# Altium footprint library Inductors.PcbLib: 39 footprints (part 2 of 3)
Each footprint in its own frame and in the unit in brackets; x right, y up, seen from the top. Pads: shape width x height; smd on the part's side, far side on the other; paste and mask are expansions set on the pad; w line width, h text height; cw(c..) or ccw(c..) is an arc to the next point about the centre after c.
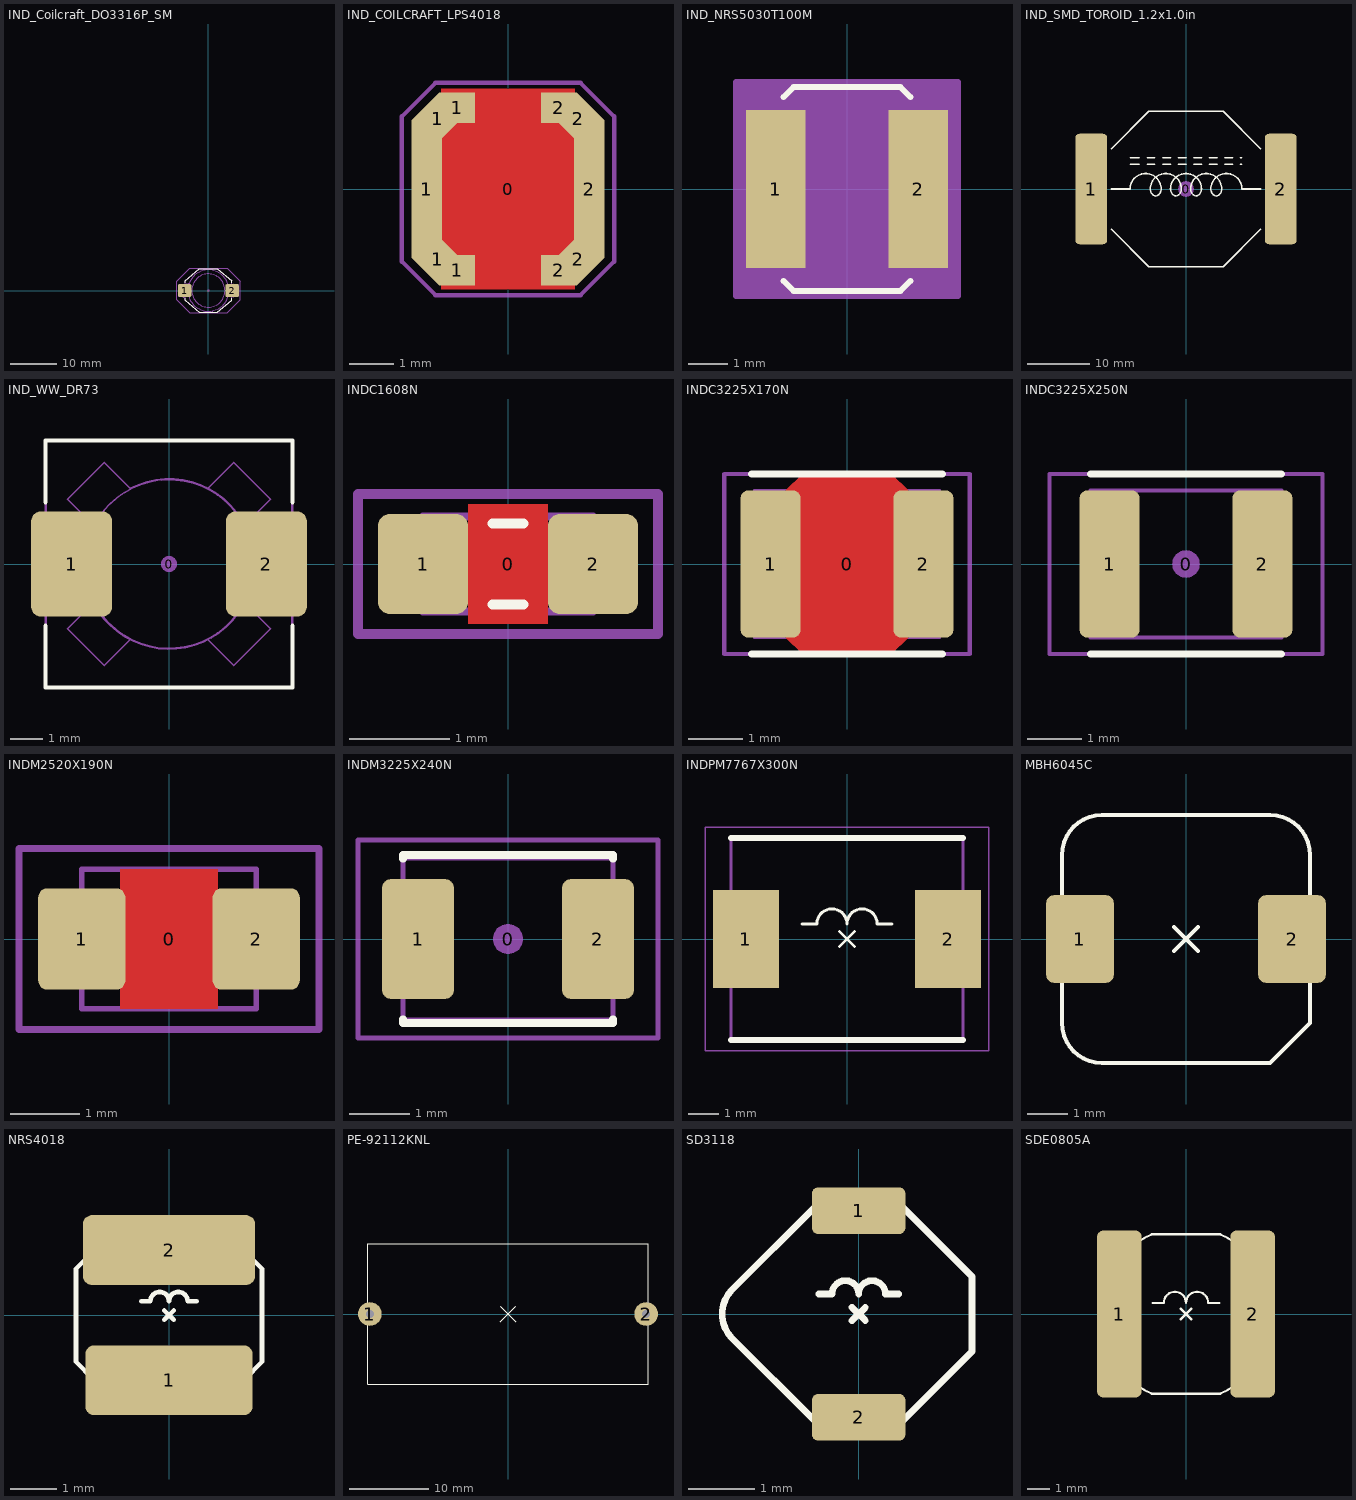
[diagram p1: the footprints below, top view; thin cyan lines are the x and y axes]

## IND_Coilcraft_DO3316P_SM [mil] "Wire-wound Power Inductor, 2-Leads, Body 12.95x9.4mm"
height 205
pads (3):
  round 20 on Mech15: 0(0,0)
  rrect25% 115x110 smd: 1(-202.5,0) 2(202.5,0)
Top Overlay:
  lines w6: -200,-65 -200,-82.84 -76.63,-185 76.63,-185 200,-82.84 200,-65 ; -200,65 -200,82.84 -76.63,185 76.63,185 200,82.84 200,65
Mechanical 13:
  drawing of 272 lines, arcs and shapes, not listed
Mechanical 15:
  lines w3: -270,-80 -270,80 -160,190 160,190 270,80 270,-80 160,-190 -160,-190 -270,-80
3D body "Pulse Inductor RR.STEP": height 172.5, standoff 0, extent -255.38,-185 255.2,185

## IND_COILCRAFT_LPS4018 [mm] "Shielded Power Inductor, Body 4.0x4.0x1.8mm"
height 1.8
pads (11):
  round 0.5 on Mech15: 0(0,0)
  rrect1% 0.7x3.124 smd: 1(-1.85,0) 2(1.85,0)
  rrect1% 0.786x0.902 smd rot 45: 1(-1.603,-1.603) 2(1.603,1.603)
  rrect1% 0.786x0.902 smd rot 135: 1(-1.603,1.603) 2(1.603,-1.603)
  rrect1% 0.812x0.7 smd: 1(-1.156,-1.85) 1(-1.156,1.85) 2(1.156,-1.85) 2(1.156,1.85)
Top Layer:
  pour cut-out: -1.524,2.286 1.524,2.286 1.524,-2.286 -1.524,-2.286
Mechanical 13:
  lines w0.076: -2,-1.275 -2,1.325 -1.325,2 1.325,2 2,1.325 2,-1.275 1.275,-2 -1.275,-2 -2,-1.275
Mechanical 15:
  lines w0.1: -2.413,-1.651 -1.651,-2.413 1.651,-2.413 2.413,-1.651 2.413,1.651 1.651,2.413 -1.651,2.413 -2.413,1.651 -2.413,-1.651
3D body "Inductor Coilcraft LPS4018.STEP": height 1.79, standoff -0.01, extent -2,-2 2,2

## IND_NRS5030T100M [mil]
height 122.05
pads (2):
  rect 59x157 smd paste+0 mask+0: 1(-70.87,0) 2(70.87,0)
Top Overlay:
  lines w6: -63.15,-91.6 -53.25,-101.5 53.25,-101.5 63.15,-91.6 ; -63.15,91.6 -53.25,101.5 53.25,101.5 63.15,91.6
Mechanical 13:
  lines w1: -96.5,-48.25 -96.5,48.25 -48.25,96.5 48.25,96.5 96.5,48.25 96.5,-48.25 48.25,-96.5 -48.25,-96.5 -96.5,-48.25
Mechanical 15:
  region: 110.37,-106.5 -110.37,-106.5 -110.37,106.5 110.37,106.5
  lines w6: -110.37,-106.5 -110.37,106.5 110.37,106.5 110.37,-106.5 -110.37,-106.5
3D body: height 122.05, standoff 0, extent -96.45,-96.45 96.46,96.46

## IND_SMD_TOROID_1.2x1.0in [mm] "Inductor, Toroid, 30.5mm L x 25.4mm W x 13.5mm T"
height 13.5
pads (3):
  round 2.54 on Mech15: 0(0,0)
  rrect25% 5.1x17.8 smd: 1(-15.25,0) 2(15.25,0)
Top Overlay:
  lines w0.254: -12,-6.5 -6,-12.5 6,-12.5 12,-6.5 ; -12,0 -9,0 cw(c-6.5,0) -4,0 cw(c-5.25,0) -4.691,-1.118 cw(c-4.875,0) -5.059,-1.118 cw(c-4.5,0) -5.75,0 cw(c-3.25,0) -0.75,0 cw(c-2,0) -1.441,-1.118 cw(c-1.625,0) -1.809,-1.118 cw(c-1.25,0) -2.5,0 cw(c0,0) 2.5,0 cw(c1.25,0) 1.809,-1.118 cw(c1.625,0) 1.441,-1.118 cw(c2,0) 0.75,0 cw(c3.25,0) 5.75,0 cw(c4.5,0) 5.059,-1.118 cw(c4.875,0) 4.691,-1.118 cw(c5.25,0) 4,0 cw(c6.5,0) 9,0 12,0 ; -12,6.5 -6,12.5 6,12.5 12,6.5 ; -9,4 -7.5,4 ; -9,5 -7.5,5 ; -6.25,4 -5,4 ; -6.25,5 -5,5 ; -3.75,4 -2.5,4 ; -3.75,5 -2.5,5 ; -1.25,4 0,4 ; -1.25,5 0,5 ; 1.25,4 2.5,4 ; 1.25,5 2.5,5 ; 3.75,4 5,4 ; 3.75,5 5,5 ; 6.25,4 7.5,4 ; 6.25,5 7.5,5 ; 8.75,4 9,4 ; 8.75,5 9,5
3D body: height 12, standoff 5, extent -10,-10 10,10
3D body: height 3.5, standoff 1.5, extent -17,-12.5 17,12.5

## IND_WW_DR73 [mm] "Wire-wound power inductor, Cooper Bussmann DR73 series, IPC Medium Density"
height 3.55
pads (3):
  round 0.5 on Mech15: 0(0,0)
  rrect25% 2.5x3.25 smd: 1(-3,0) 2(3,0)
Top Overlay:
  lines w0.127: -3.81,-1.905 -3.81,-3.81 3.81,-3.81 3.81,-1.905 ; -3.81,1.905 -3.81,3.81 3.81,3.81 3.81,1.905
Mechanical 13:
  circle w0.05: c0,0 r2.6
  lines w0.05: -2.574,-0.515 -2.574,-0.367 ; -2.574,0.367 -2.574,0.515 ; -2.346,-1.178 -2.346,-1.121 ; -2.346,1.121 -2.346,1.178 ; -2.273,-1.263 -2.334,-1.202 -3.129,-1.998 -1.998,-3.129 -1.202,-2.334 ; -2.273,1.263 -2.334,1.202 ; -2.202,-1.429 -2.184,-1.411 ; -2.202,1.429 -2.184,1.411 ; -1.429,-2.202 -1.411,-2.184 ; -1.263,-2.273 -1.202,-2.334 ; -1.197,-2.308 -1.202,-2.334 ; -0.237,2.589 -0.232,2.615 ; 0.232,-2.615 0.237,-2.589 ; 1.197,2.308 1.202,2.334 ; 1.202,-2.334 1.998,-3.129 3.129,-1.998 2.334,-1.202 2.273,-1.263 ; 1.263,2.273 1.202,2.334 ; 1.411,2.184 1.429,2.202 ; 2.184,-1.411 2.202,-1.429 ; 2.184,1.411 2.202,1.429 ; 2.273,1.263 2.334,1.202 3.129,1.998 1.998,3.129 1.202,2.334 ; 2.574,-0.515 2.574,-0.367 ; 2.574,0.367 2.574,0.515 ; -2.334,1.202 ccw(c0,0) -1.202,2.334 -1.998,3.129 -3.129,1.998 -2.334,1.202 ; -3.8,-3.8 -3.8,3.8 3.8,3.8 3.8,-3.8 -3.8,-3.8
Mechanical 15:
  lines w0.076: -3.8,-3.8 3.8,-3.8 3.8,3.8 -3.8,3.8 -3.8,-3.8
3D body "Cooper Bussman DR73 Series Inductor.STEP": height 3.55, standoff 0, extent -3.8,-3.8 3.8,3.8

## INDC1608N [mm] "Chip bead, Body 1.6x0.8mm, 0603, IPC Medium Density"
height 0.8
pads (3):
  round 0.254 on Mech15: 0(0,0)
  rrect25% 0.9x1 smd: 1(-0.85,0) 2(0.85,0)
Top Layer:
  pour cut-out: -0.4,0.6 0.4,0.6 0.4,-0.6 -0.4,-0.6
Top Overlay:
  lines w0.102: -0.152,-0.406 0.152,-0.406 ; -0.152,0.406 0.152,0.406
Mechanical 13:
  lines w0.076: -0.85,-0.475 -0.85,0.475 0.85,0.475 0.85,-0.475 -0.85,-0.475
Mechanical 15:
  lines w0.1: -1.5,-0.7 -1.5,0.7 1.5,0.7 1.5,-0.7 -1.5,-0.7
3D body "INDC1608X80N.step": height 0.79, standoff -0.01, extent -0.8,-0.4 0.8,0.4

## INDC3225X170N [mm] "Chip Inductor, 2-Leads, Body 3.2x2.5mm, IPC Medium Density"
height 1.7
pads (3):
  round 0.508 on Mech15: 0(0,0)
  rrect25% 1.1x2.7 smd: 1(-1.4,0) 2(1.4,0)
Top Layer:
  pour cut-out: -1.125,1.35 -0.825,1.65 0.825,1.65 1.125,1.35 1.125,-1.35 0.825,-1.65 -0.825,-1.65 -1.125,-1.35
Top Overlay:
  lines w0.127: -1.75,-1.651 1.75,-1.651 ; -1.75,1.651 1.75,1.651
Mechanical 13:
  lines w0.05: -1.7,-1.35 -1.7,1.35 1.7,1.35 1.7,-1.35 -1.7,-1.35
Mechanical 15:
  lines w0.076: -2.25,-1.65 2.25,-1.65 2.25,1.65 -2.25,1.65 -2.25,-1.65
3D body "INDC3225X170N.STEP": height 1.7, standoff 0, extent -1.71,-1.36 1.71,1.36

## INDC3225X250N [mm] "Chip Inductor, 2-Leads, Body 3.2x2.5mm, IPC Medium Density"
height 2.7
pads (3):
  round 0.508 on Mech15: 0(0,0)
  rrect25% 1.1x2.7 smd: 1(-1.4,0) 2(1.4,0)
Top Overlay:
  lines w0.127: -1.75,-1.651 1.75,-1.651 ; -1.75,1.651 1.75,1.651
Mechanical 13:
  lines w0.076: -1.75,-1.35 1.75,-1.35 1.75,1.35 -1.75,1.35 -1.75,-1.35
Mechanical 15:
  lines w0.076: -2.5,-1.65 2.5,-1.65 2.5,1.65 -2.5,1.65 -2.5,-1.65
3D body "INDC3225X250N.STEP": height 2.7, standoff 0, extent -1.7,-1.35 1.7,1.35

## INDM2520X190N [mm] "Inductor, molded body 2.5x2.0mm"
height 1.9
pads (3):
  round 0.508 on Mech15: 0(0,0)
  rrect20% 1.25x1.45 smd: 1(-1.25,0) 2(1.25,0)
Top Layer:
  pour cut-out: -0.7,1 0.7,1 0.7,-1 -0.7,-1
Mechanical 13:
  lines w0.076: -1.25,-1 1.25,-1 1.25,1 -1.25,1 -1.25,-1
Mechanical 15:
  lines w0.1: -2.15,-1.3 2.15,-1.3 2.15,1.3 -2.15,1.3 -2.15,-1.3
3D body "INDM2520X190N.STEP": height 1.79, standoff -0.01, extent -1.25,-1 1.25,1

## INDM3225X240N [mm] "Molded Inductor, 2-Leads, Body 3.2x2.5mm, IPC Medium Density"
height 2.4
pads (3):
  round 0.508 on Mech15: 0(0,0)
  rrect25% 1.2x2 smd: 1(-1.5,0) 2(1.5,0)
Top Overlay:
  lines w0.127: -1.75,-1.338 -1.75,-1.4 1.75,-1.4 1.75,-1.338 ; -1.75,1.338 -1.75,1.4 1.75,1.4 1.75,1.338
Mechanical 13:
  lines w0.076: -1.75,-1.35 -1.75,1.35 1.75,1.35 1.75,-1.35 -1.75,-1.35
Mechanical 15:
  lines w0.076: -2.5,-1.65 -2.5,1.65 2.5,1.65 2.5,-1.65 -2.5,-1.65
3D body "INDM3225X240N.STEP": height 2.4, standoff 0, extent -1.79,-1.35 1.79,1.35

## INDPM7767X300N [mm]
pads (2):
  rect 2.2x3.25 smd: 1(-3.35,0) 2(3.35,0)
Top Overlay:
  lines w0.1: -1.5,0.5 -1,0.5 cw(c-0.5,0.5) 0,0.5 cw(c0.5,0.5) 1,0.5 1.5,0.5 ; -0.25,-0.25 0.25,0.25 ; -0.25,0.25 0.25,-0.25
  lines w0.2: -3.85,-3.35 3.85,-3.35 ; -3.85,3.35 3.85,3.35
Mechanical 13:
  lines w0.1: -3.85,-3.35 -3.85,3.35 3.85,3.35 3.85,-3.35 -3.85,-3.35
Mechanical 15:
  lines w0.05: -4.7,-3.7 -4.7,3.7 4.7,3.7 4.7,-3.7 -4.7,-3.7
3D body "MPLC0730L4R7.stp": height 3, standoff 0, extent -3.85,-3.35 3.85,3.35

## MBH6045C [mm]
height 4.8
pads (2):
  rrect25% 1.7x2.2 smd: 1(-2.65,0) 2(2.65,0)
Top Overlay:
  lines w0.1: -0.3,-0.3 0.3,0.3 ; -0.3,0.3 0.3,-0.3 ; -3.1,-2.1 ccw(c-2.1,-2.1) -2.1,-3.1 2.1,-3.1 3.1,-2.1 3.1,2.1 ccw(c2.1,2.1) 2.1,3.1 -2.1,3.1 ccw(c-2.1,2.1) -3.1,2.1 -3.1,-2.1
3D body: height 4.8, standoff 0, extent -3.1,-3.1 3.1,3.1

## NRS4018 [mm]
pads (2):
  rrect25% 3.6x1.5 smd: 1(0,-1.4)
  rrect25% 3.7x1.5 smd: 2(0,1.4)
Top Overlay:
  lines w0.1: -0.6,0.3 -0.4,0.3 cw(c-0.2,0.3) 0,0.3 cw(c0.2,0.3) 0.4,0.3 0.6,0.3 ; -0.1,-0.1 0.1,0.1 ; -0.1,0.1 0.1,-0.1 ; -2,-1 -2,1 -1.625,1.375 -1.625,1.625 -1.625,1.875 -1.5,2 1.5,2 1.625,1.875 1.625,1.625 1.625,1.375 2,1 2,-1 1.625,-1.375 1.625,-1.625 1.625,-1.875 1.5,-2 -1.5,-2 -1.625,-1.875 -1.625,-1.625 -1.625,-1.375 -2,-1
3D body "69817.stp": height 1.8, standoff 0, extent -2,-2.2 2,2.2

## PE-92112KNL [mm]
pads (2):
  round 3 hole 1: 1(-17.5,0) 2(17.5,0)
Top Overlay:
  lines w0.1: -1,-1 1,1 ; -1,1 1,-1 ; -17.78,-8.89 -17.78,8.89 17.78,8.89 17.78,-8.89 -17.78,-8.89
3D body: height 35.56, standoff 0, extent -17.75,-8.89 17.81,8.89

## SD3118 [mm]
height 1.8
pads (2):
  rrect25% 1.4x0.7 smd: 1(0,1.55) 2(0,-1.55)
Top Overlay:
  lines w0.1: -0.6,0.3 -0.4,0.3 cw(c-0.2,0.3) 0,0.3 cw(c0.2,0.3) 0.4,0.3 0.6,0.3 ; -0.1,-0.1 0.1,0.1 ; -0.1,0.1 0.1,-0.1 ; -1.9,-0.363 cw(c-1.537,0) -1.9,0.363 -0.663,1.6 0.663,1.6 1.7,0.563 1.7,-0.563 0.663,-1.6 -0.663,-1.6 -1.9,-0.363
3D body: height 2.8, standoff 0, extent -2.072,-1.6 1.7,1.6

## SDE0805A [mm]
height 5
pads (2):
  rrect25% 2x7.5 smd: 1(-3,0) 2(3,0)
Top Overlay:
  lines w0.1: -1.5,0.5 -1,0.5 cw(c-0.5,0.5) 0,0.5 cw(c0.5,0.5) 1,0.5 1.5,0.5 ; -0.25,-0.25 0.25,0.25 ; -0.25,0.25 0.25,-0.25 ; -1.536,-3.585 cw(c0,0) -1.536,3.585 1.536,3.585 cw(c0,0) 1.536,-3.585 -1.536,-3.585
3D body "SDE0805A.STP": height 5, standoff 0, extent -3.826,-3.5 3.826,3.5